# EAGLE library part THAT2180 (library THAT2180 SIP8)
THAT Coprorations 2180 VCA Created by: Omar from AudioSquare.com
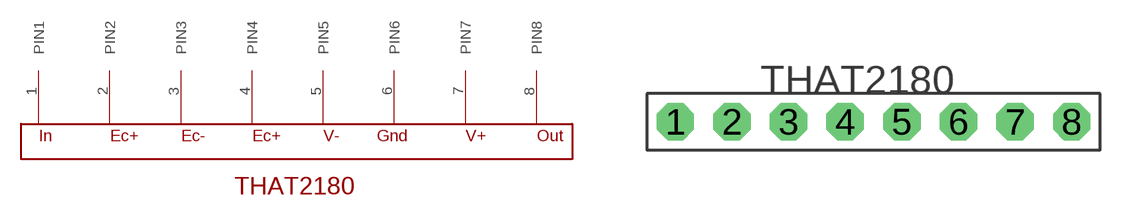
[diagram p0: symbol with the pads of SIP8; footprint SIP8]

Designator prefix -

## THAT2180  [SIP8]
1  PIN1
2  PIN2
3  PIN3
4  PIN4
5  PIN5
6  PIN6
7  PIN7
8  PIN8

## Footprint SIP8 (pad centres in mm)
THAT2180 VCA Created by: Omar from AudioSquare.com
drill 0.8 pad 1.676 octagon: 1 -11.43,1.27; 2 -8.89,1.27; 3 -6.35,1.27; 4 -3.81,1.27; 5 -1.27,1.27; 6 1.27,1.27; 7 3.81,1.27; 8 6.35,1.27